# EAGLE library part PGA2310 (library PGA2310)
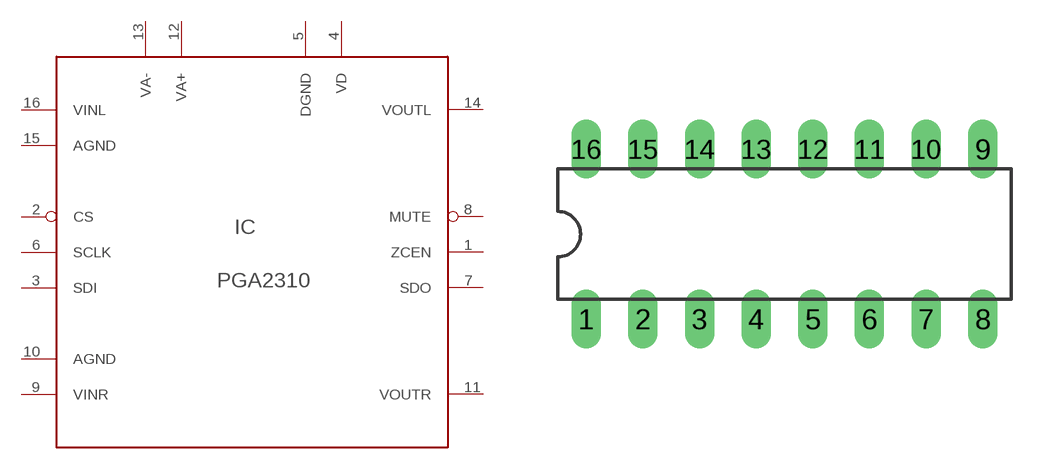
[diagram p0: symbol with the pads of DIL16; footprint DIL16]

Designator prefix IC

## PGA2310  [DIL16]
1  ZCEN  in
2  CS  in
3  SDI  in
4  VD  pwr
5  DGND  pwr
6  SCLK  in
7  SDO  out
8  MUTE  in
9  VINR  pwr
10  AGND  pwr
11  VOUTR  out
12  VA+  pwr
13  VA-  pwr
14  VOUTL  out
15  AGND  pwr
16  VINL  pwr

## Footprint DIL16 (pad centres in mm)
drill 0.813 long: 1 -8.89,-3.81; 2 -6.35,-3.81; 3 -3.81,-3.81; 4 -1.27,-3.81; 5 1.27,-3.81; 6 3.81,-3.81; 7 6.35,-3.81; 8 8.89,-3.81; 9 8.89,3.81; 10 6.35,3.81; 11 3.81,3.81; 12 1.27,3.81; 13 -1.27,3.81; 14 -3.81,3.81; 15 -6.35,3.81; 16 -8.89,3.81